# Altium footprint library WURTH_691311500104.PcbLib: 1 footprints
Each footprint in its own frame and in the unit in brackets; x right, y up, seen from the top. Pads: shape width x height; smd on the part's side, far side on the other; paste and mask are expansions set on the pad; w line width, h text height; cw(c..) or ccw(c..) is an arc to the next point about the centre after c.
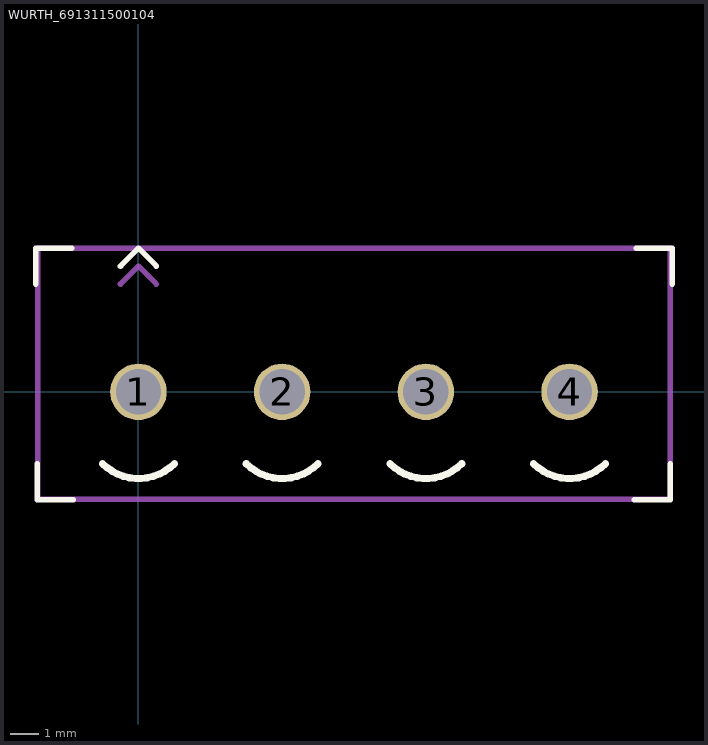
[diagram p0: the footprint, top view; thin cyan lines are the x and y axes]

## WURTH_691311500104 [mm]
height 12
pads (4):
  round 2 hole 1.6: 1(0,0) 2(5.08,0) 3(10.16,0) 4(15.24,0)
Top Overlay:
  lines w0.2: -3.628,3.81 -3.628,5.08 -3.484,5.08 -2.358,5.08 ; -3.577,-2.54 -3.577,-3.665 -3.577,-3.81 -2.307,-3.81 ; -0.635,4.445 0,5.08 0.635,4.445 ; 17.526,-3.82 18.796,-3.82 18.796,-3.675 18.796,-2.55 ; 17.598,5.08 18.724,5.08 18.868,5.08 18.868,3.81
  lines w0.254: -1.27,-2.54 ccw(c0,-1.27) 1.27,-2.54 ; 3.81,-2.54 ccw(c5.08,-1.27) 6.35,-2.54 ; 8.89,-2.54 ccw(c10.16,-1.27) 11.43,-2.54 ; 13.97,-2.54 ccw(c15.24,-1.27) 16.51,-2.54
Mechanical 15:
  lines w0.2: -0.635,3.81 0,4.445 0.635,3.81 ; -3.556,-3.8 -3.556,5.08 18.796,5.08 18.796,-3.8 -3.556,-3.8
3D body "691311500104_Download_STP_691311500104_rev1.stp": height 12, standoff -4, extent -3.54,-3.8 18.78,4.7